# EAGLE library part DIR9001-Q1 (library RalimTek)
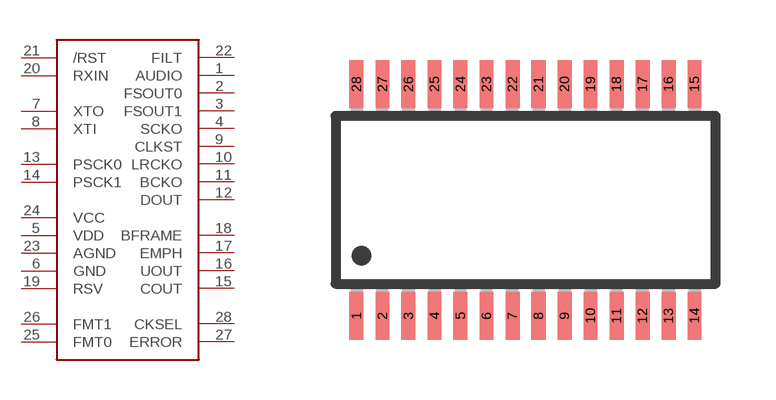
[diagram p8: symbol with the pads of TSSOP28; footprint TSSOP28]

Designator prefix -

## DIR9001-Q1  [TSSOP28]
1  AUDIO
2  FSOUT0
3  FSOUT1
4  SCKO
5  VDD
6  GND
7  XTO
8  XTI
9  CLKST
10  LRCKO
11  BCKO
12  DOUT
13  PSCK0
14  PSCK1
15  COUT
16  UOUT
17  EMPH
18  BFRAME
19  RSV
20  RXIN
21  /RST
22  FILT
23  AGND
24  VCC
25  FMT0
26  FMT1
27  ERROR
28  CKSEL

## Footprint TSSOP28 (pad centres in mm)
smd 0.35 x 1.2: 1 -5.495,-2.9; 2 -4.845,-2.9; 3 -4.195,-2.9; 4 -3.545,-2.9; 5 -2.895,-2.9; 6 -2.245,-2.9; 7 -1.595,-2.9; 8 -0.945,-2.9; 9 -0.295,-2.9; 10 0.355,-2.9; 11 1.005,-2.9; 12 1.655,-2.9; 13 2.305,-2.9; 14 2.955,-2.9; 15 2.955,2.9; 16 2.305,2.9; 17 1.655,2.9; 18 1.005,2.9; 19 0.355,2.9; 20 -0.295,2.9; 21 -0.945,2.9; 22 -1.595,2.9; 23 -2.245,2.9; 24 -2.895,2.9; 25 -3.545,2.9; 26 -4.195,2.9; 27 -4.845,2.9; 28 -5.495,2.9